# EAGLE library part LD15S24A4GV00LF (library connectors)
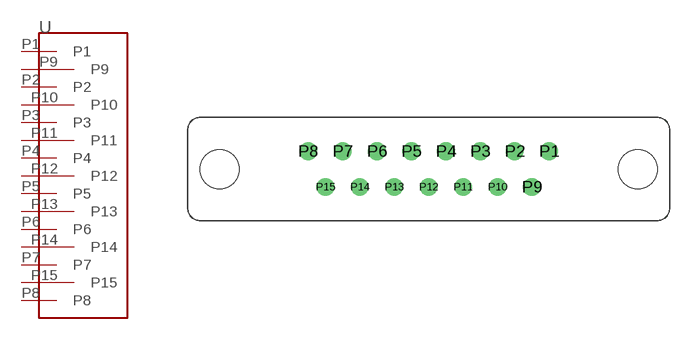
[diagram p2: symbol with the pads of LD15S24A4GV00LF; footprint LD15S24A4GV00LF]

Designator prefix -

## LD15S24A4GV00LF  [LD15S24A4GV00LF]
P1  P1
P2  P2
P3  P3
P4  P4
P5  P5
P6  P6
P7  P7
P8  P8
P9  P9
P10  P10
P11  P11
P12  P12
P13  P13
P14  P14
P15  P15

## Footprint LD15S24A4GV00LF (pad centres in mm)
drill 0.9: P1 9.59,1.42; P2 6.85,1.42; P3 4.11,1.42; P4 1.37,1.42; P5 -1.37,1.42; P6 -4.11,1.42; P7 -6.85,1.42; P8 -9.59,1.42; P9 8.22,-1.42; P10 5.48,-1.42; P11 2.74,-1.42; P12 0,-1.42; P13 -2.74,-1.42; P14 -5.48,-1.42; P15 -8.22,-1.42
hole 3.1 at -16.66,0
hole 3.1 at 16.66,0